# Altium footprint library led.PCBLIB: 37 footprints (part 2 of 3)
Each footprint in its own frame and in the unit in brackets; x right, y up, seen from the top. Pads: shape width x height; smd on the part's side, far side on the other; paste and mask are expansions set on the pad; w line width, h text height; cw(c..) or ccw(c..) is an arc to the next point about the centre after c.
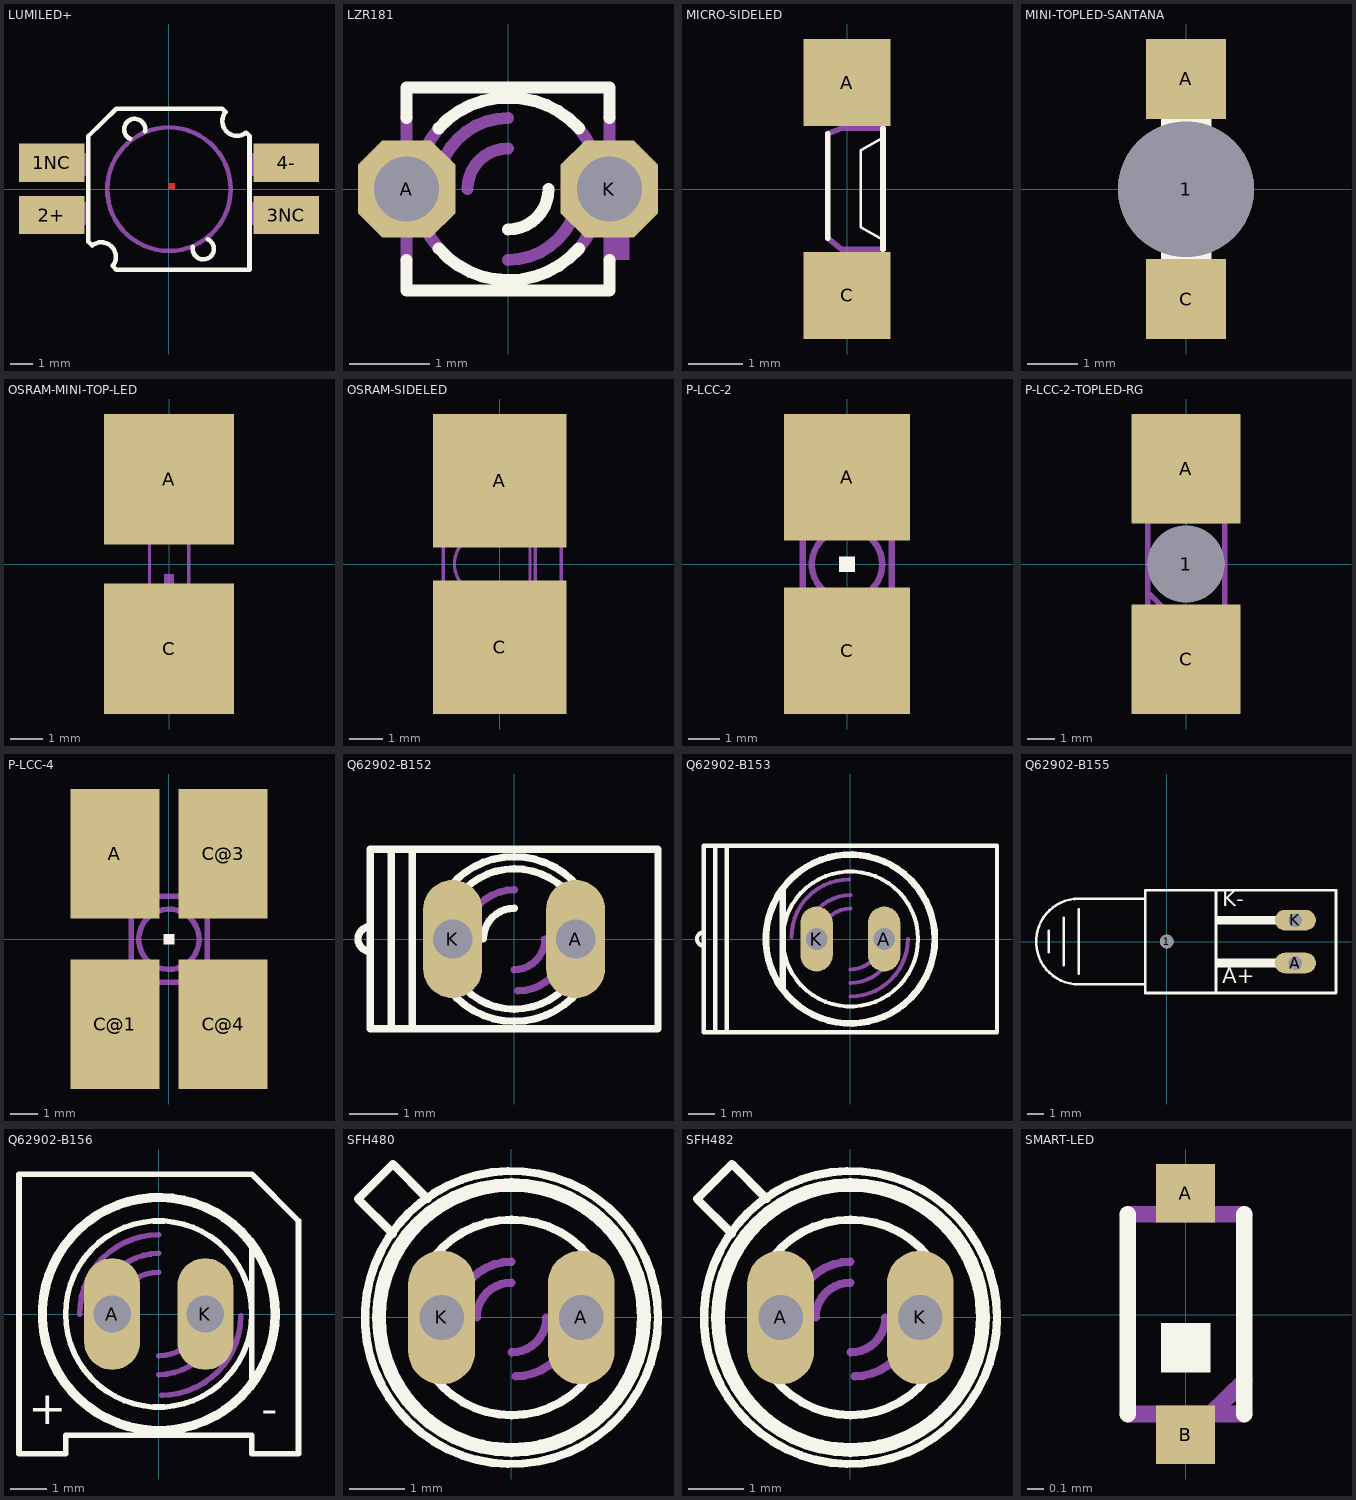
[diagram p1: the footprints below, top view; thin cyan lines are the x and y axes]

## LUMILED+ [mil]
pads (4):
  rect 115x67 smd: 1NC(-204.72,46) 2+(-204.72,-45.28) 3NC(205,-45.28) 4-(205,46)
Top Layer:
  region: 0,0 10,0 10,10 0,10
Top Overlay:
  lines w8: -67.91,88 cw(c-59.9,104.59) -41.83,101 ; 42,-100.89 ccw(c60.14,-104.3) 68,-87.6 ; -140.75,-92.03 -134.35,-98.43 cw(c-118.37,-118.37) -98.43,-134.35 -92.03,-140.75 141,-140.75 141,93 135,99 cw(c118.98,118.98) 99,135 93,141 -92.03,141 -140.75,93 -140.75,-92.03
Top Paste:
  region: 0,0 10,0 10,10 0,10
Top Solder:
  region: 0,0 10,0 10,10 0,10
Mechanical 16:
  circle w8: c0,0 r108
  rectangle: -235.24,23 -142.72,63
  rectangle: -235.24,-62.99 -142.72,-22.64
  region: 236,-22.64 143,-22.64 143,-62.99 236,-62.99
  region: 236,63 143,63 143,23 236,23

## LZR181 [mil]
pads (2):
  oct 48x48 hole 32: A(-50,0) K(50,0)
Top Overlay:
  lines w6: -50,-35 -50,-50 50,-50 50,-35 ; -50,35 -50,50 50,50 50,35 ; -34.17,-29.29 ccw(c0,0) 0,-45 ccw(c0.42,0.91) 35,-29.29 ; -34.17,30 cw(c-0.78,0.36) 0,45 cw(c1.19,-0.55) 35,30 ; 0,-20 ccw(c0,0) 20,0
Mechanical 16:
  rectangle: 50,-35 60,10
  rectangle: -60,-10 -50,10
  lines w6: -50,-35 -50,35 ; -35,0 cw(c0,0) 0,35 ; -34.17,-29.29 cw(c0,0) -45,0 cw(c0.96,0.36) -34.17,30 ; -20,0 cw(c0,0) 0,20 ; 0,-35 ccw(c0,0) 35,0 ; 35,-29.29 ccw(c0.42,-1.13) 45,0 ccw(c-0.55,1.48) 35,30 ; 50,-35 50,35

## MICRO-SIDELED [mil]
pads (2):
  rect 63x63 smd: A(0,77) C(0,-76.77)
Top Overlay:
  lines w2: 24,-35.43 10,-27.56 10,28 24,36
  lines w4: -13.78,-35.43 -13.78,40 ; 26,-43.31 26,44
Top Paste:
  rectangle: -13.78,-68.9 14,-45.28
  rectangle: -13.78,46 14,69
Top Solder:
  rectangle: -15.75,44 16,71
  rectangle: -15.75,-70.87 16,-43.31
Mechanical 16:
  rectangle: -4.92,45 5,69
  rectangle: -4.92,-68.9 5,-44.29
  lines w4: -13.78,-35.43 -3.94,-43.31 26,-43.31 ; -13.78,40 -3.94,44 26,44

## MINI-TOPLED-SANTANA [mil]
pads (3):
  round 107 hole 107: 1(0,0)
  rect 63x63 smd: A(0,87) C(0,-86.61)
Top Overlay:
  rectangle: -7.87,-15.75 6,-1.97
  rectangle: -19.68,40 20,56
  rectangle: -19.68,-55.12 20,-41.34
  lines w4: 14,-39.37 28,-39.37 28,-25.59 ; 14,-39.37 -27.56,-39.37 -27.56,40 28,40 28,-25.59 ; 14,-39.37 28,-25.59 ; -17.72,-27.56 18,-27.56 18,28 -17.72,28 -17.72,-27.56
Top Paste:
  rectangle: -19.68,-80.71 20,-61.02
  rectangle: -19.68,62 20,81
Top Solder:
  rectangle: -21.65,60 22,83
  rectangle: -21.65,-82.68 22,-59.06
Mechanical 16:
  rectangle: -19.68,-82.68 20,-55.12
  rectangle: -19.68,56 20,81

## OSRAM-MINI-TOP-LED [mil]
pads (2):
  rect 158x158 smd: A(0,103) C(0,-102.36)
Top Overlay:
  text "A" at -25,75 h77.5
  text "C" at -25,-125 h77.5
Top Paste:
  rectangle: -17.72,26 18,54
  rectangle: -17.72,-53.15 18,-25.59
Top Solder:
  rectangle: -19.68,24 20,56
  rectangle: -19.68,-55.12 20,-23.62
Mechanical 16:
  rectangle: -5.91,-23.62 6,-11.81
  lines w4: -17.72,38 -17.72,44 18,44 18,38 ; 18,-37.4 18,-43.31 -17.72,-43.31 -17.72,-35.43 -15.75,-35.43 ; -15.75,-35.43 24,-35.43 24,36 -23.62,36 -23.62,-27.56 -15.75,-35.43

## OSRAM-SIDELED [mil]
pads (2):
  rect 158x158 smd: A(0,99) C(0,-98.43)
Top Overlay:
  text "C" at 25,-125 h77.5
  text "A" at 25,100 h77.5
Top Paste:
  rectangle: -74.8,-82.68 75,-23.62
  rectangle: -74.8,24 75,83
Top Solder:
  rectangle: -82.68,-86.61 83,-15.75
  rectangle: -82.68,16 83,87
Mechanical 16:
  rectangle: -72.83,-80.71 -27.56,-39.37
  lines w4: 34,-47.24 -21.65,-35.43 cw(c-17.68,0.28) -21.65,36 34,48 ; 36,-80.71 36,81 ; 36,-80.71 -72.83,-80.71 -72.83,-29.53 -66.93,-29.53 -66.93,30 -72.83,30 -72.83,81 36,81 ; 36,-80.71 42,-80.71 ; 36,81 42,81 ; 42,-80.71 73,-72.83 73,73 42,81 ; 42,-80.71 42,81

## P-LCC-2 [mil]
pads (2):
  rect 158x158 smd: A(0,109) C(0,-108.27)
Top Overlay:
  rectangle: -9.84,-9.84 10,10
  text "A" at -25,100 h77.5
  text "C" at -25,-150 h77.5
Top Paste:
  rectangle: -51.18,-88.58 52,-29.53
  rectangle: -51.18,30 52,89
Top Solder:
  rectangle: -55.12,26 56,93
  rectangle: -55.12,-92.52 56,-25.59
Mechanical 16:
  circle w8: c0,0 r44
  lines w4: -43.31,-62.99 -43.31,-70.87 44,-70.87 44,-62.99 ; -43.31,63 -43.31,71 44,71 44,63
  lines w8: -55.12,-41.34 -55.12,-62.99 -43.31,-62.99 -33.46,-62.99 ; -55.12,-41.34 -33.46,-62.99 ; -55.12,-41.34 -55.12,63 -43.31,63 44,63 56,63 56,-62.99 44,-62.99 -33.46,-62.99

## P-LCC-2-TOPLED-RG [mil]
pads (3):
  round 111 hole 111: 1(0,0)
  rect 158x158 smd: A(0,138) C(0,-137.8)
Top Overlay:
  circle w8: c0,0 r44
  rectangle: -9.84,-9.84 10,10
  text "A" at -25,130 h77.5
  text "C" at -25,-179.53 h77.5
Top Paste:
  rectangle: -51.18,-118.11 52,-59.06
  rectangle: -51.18,60 52,119
Top Solder:
  rectangle: -59.06,60 60,126
  rectangle: -59.06,-125.98 60,-59.06
Mechanical 16:
  rectangle: -45.28,95 46,107
  rectangle: -45.28,-106.3 46,-94.49
  lines w4: -43.31,-96.46 -43.31,-62.99 ; -43.31,63 -43.31,97 ; 44,-96.46 44,-62.99 ; 44,63 44,97
  lines w8: -55.12,-41.34 -55.12,-62.99 -43.31,-62.99 -33.46,-62.99 ; -55.12,-41.34 -33.46,-62.99 ; -55.12,-41.34 -55.12,63 -43.31,63 44,63 56,63 56,-62.99 44,-62.99 -33.46,-62.99

## P-LCC-4 [mil]
pads (4):
  rect 130x189 smd: A(-78.74,125) C@1(-78.74,-124.02) C@3(79,125) C@4(79,-124.02)
Top Overlay:
  rectangle: -7.87,-7.87 8,8
  text "C" at -75,-150 h77.5
  text "A" at -75,100 h77.5
  text "C" at 50,100 h77.5
  text "C" at 50,-150 h77.5
Top Paste:
  rectangle: -43.31,-70.87 -15.75,-31.5
  rectangle: 16,-70.87 44,-31.5
  rectangle: 16,32 44,71
  rectangle: -43.31,32 -15.75,71
Top Solder:
  rectangle: -45.28,30 -13.78,73
  rectangle: 14,30 46,73
  rectangle: 14,-72.83 46,-29.53
  rectangle: -45.28,-72.83 -13.78,-29.53
Mechanical 16:
  circle w8: c0,0 r44
  lines w4: -39.37,-62.99 -39.37,-70.87 -19.68,-70.87 -19.68,-64.96 ; -39.37,63 -39.37,71 -19.68,71 -19.68,65 ; 20,-64.96 20,-70.87 40,-70.87 40,-62.99 ; 20,65 20,71 44,71 44,63
  lines w8: -55.12,-41.34 -55.12,-62.99 -39.37,-62.99 -33.46,-62.99 ; -55.12,-41.34 -33.46,-62.99 ; -55.12,-41.34 -55.12,63 -39.37,63 44,63 56,63 56,-62.99 40,-62.99 -33.46,-62.99

## Q62902-B152 [mil]
pads (2):
  oval 48x96 hole 32: A(50,0) K(-50,0)
Top Overlay:
  lines w6: -57.55,35 cw(c-0.61,0.35) 0,67 cw(c0.17,-0.16) 58,34 ; -57.37,-34.62 ccw(c0,0) 0,-67 ccw(c0.32,0.56) 58,-34.62 ; -45.22,35 cw(c-0.3,0.15) 0,57 cw(c0.66,-0.71) 46,35 ; -44.69,-35.38 ccw(c0,0) 0,-57 ccw(c0.24,0.51) 45,-35.61 ; -25,0 cw(c0,0) 0,25 ; -117,-10 -117,-73 -100,-73 ; -117,-10 -117,10 ; -117,-10 cw(c-117,0) -117,10 ; -117,10 -117,73 -100,73 ; -100,-73 -83,-73 ; -100,-73 -100,73 ; -100,73 -83,73 ; -83,-73 117,-73 117,73 -83,73 ; -83,-73 -83,73
Mechanical 16:
  lines w6: -57.09,-35.06 cw(c0,0) -67,0 cw(c1.03,0.3) -56.88,36 ; -45.1,35 ccw(c0.21,0.07) -57,0 ccw(c0,0) -44.51,-35.61 ; -40,0 cw(c0,0) 0,40 ; 0,-25 ccw(c0,0) 25,0 ; 3,-42.12 ccw(c3,-2.12) 43,-2.12 ; 45,-35.72 ccw(c0.29,-0.83) 57,0 ccw(c-1.2,0.6) 45,36 ; 57,-35.33 ccw(c0.04,-0.13) 67,0 ccw(c0.3,1.51) 58,35

## Q62902-B153 [mil]
pads (2):
  oval 48x96 hole 32: A(50,0) K(-50,0)
Top Overlay:
  circle w6: c0,0 r100
  circle w10: c0,0 r125
  lines w6: -217,-10 -217,-138 -200,-138 ; -217,-10 -217,10 ; -217,-10 cw(c-217,0) -217,10 ; -217,10 -217,138 -200,138 ; -200,-138 -183,-138 ; -200,-138 -200,138 ; -200,138 -183,138 ; -183,-138 217,-138 217,138 -183,138 ; -183,-138 -183,138
  lines w10: -100,-75 -100,75
Mechanical 16:
  lines w6: -87.12,3 cw(c-2.13,3.01) -2.12,88 ; -65,0 cw(c0,0) 0,65 ; -45,0 cw(c0,0) 0,45 ; 0,-85 ccw(c0,0) 85,0 ; 0,-65 ccw(c0,0) 65,0 ; 0,-45 ccw(c0,0) 45,0

## Q62902-B155 [mil]
pads (3):
  round 32 hole 32: 1(0,0)
  oval 96x48 hole 32: A(300,-50) K(300,50)
Top Overlay:
  rectangle: 115,40 265,60
  rectangle: 115,-60 265,-40
  lines w6: -275,-25 -275,25 ; -240,-55 -240,55 ; -205,-75 -205,75 ; -50,-100 -50,-120 115,-120 ; -50,-100 -205,-100 cw(c-205,0) -205,100 -50,100 ; -50,-100 -50,100 ; -50,100 -50,120 115,120 ; 115,-120 115,120 ; 115,-120 395,-120 395,120 115,120
  text "A+" at 130,-110 h62
  text "K-" at 130,70 h62

## Q62902-B156 [mil]
pads (2):
  oval 60x120 hole 40: A(-50,0) K(50,0)
Top Overlay:
  circle w6: c0,0 r100
  circle w10: c0,0 r125
  lines w6: 100,-75 100,75 ; -150,-150 -150,150 100,150 150,100 150,-150 100,-150 100,-130 -100,-130 -100,-150 -150,-150
  text "+" at -140,-130 h62
  text "-" at 110,-130 h62
Mechanical 16:
  lines w6: -85,0 cw(c0,0) 0,85 ; -65,0 cw(c0,0) 0,65 ; -45,0 cw(c0,0) 0,45 ; 0,-65 ccw(c0,0) 65,0 ; 0,-45 ccw(c0,0) 45,0 ; 3,-87.12 ccw(c3,-2.13) 88,-2.12

## SFH480 [mil]
pads (2):
  oval 48x96 hole 32: A(50,0) K(-50,0)
Top Overlay:
  circle w6: c0,0 r105
  circle w10: c0,0 r95
  lines w6: -85,60 -110,85 -85,110 -60,85 ; -60.46,-35.27 ccw(c0,0) 0,-70 ccw(c0.27,0.47) 61,-35.27 ; -60.46,36 cw(c-0.63,0.36) 0,70 cw(c0.9,-0.1) 61,36
Mechanical 16:
  lines w6: -59.61,-36.68 cw(c0,0) -70,0 cw(c0.72,0.21) -59.06,38 ; -40,0 cw(c0,0) 0,40 ; -25,0 cw(c0,0) 0,25 ; 0,-25 ccw(c0,0) 25,0 ; 3,-42.12 ccw(c3,-2.12) 43,-2.12 ; 60,-37.58 ccw(c0.47,-1.62) 70,0 ccw(c-0.36,0.83) 60,37

## SFH482 [mil]
pads (2):
  oval 48x96 hole 32: A(-50,0) K(50,0)
Top Overlay:
  circle w6: c0,0 r105
  circle w10: c0,0 r95
  lines w6: -85,60 -110,85 -85,110 -60,85 ; -60.46,-35.27 ccw(c0,0) 0,-70 ccw(c0.27,0.47) 61,-35.27 ; -60.46,36 cw(c-0.63,0.36) 0,70 cw(c0.9,-0.1) 61,36
Mechanical 16:
  lines w6: -59.61,-36.68 cw(c0,0) -70,0 cw(c0.72,0.21) -59.06,38 ; -40,0 cw(c0,0) 0,40 ; -25,0 cw(c0,0) 0,25 ; 0,-25 ccw(c0,0) 25,0 ; 3,-42.12 ccw(c3,-2.12) 43,-2.12 ; 60,-37.58 ccw(c0.47,-1.62) 70,0 ccw(c-0.36,0.83) 60,37

## SMART-LED [mil]
pads (2):
  rect 14x14 smd: A(0,29) B(0,-28.54)
Top Overlay:
  rectangle: -5.91,-13.78 6,-1.97
  lines w4: -13.78,-23.62 -13.78,24 ; 14,-23.62 14,24
Mechanical 16:
  rectangle: -5.91,24 6,34
  rectangle: -5.91,-33.46 6,-23.62
  lines w4: -13.78,-23.62 6,-23.62 ; -13.78,24 14,24 ; 14,-23.62 6,-23.62 ; 14,-15.75 6,-23.62